# Altium schematic symbol library Connectors - Memory - Card Sockets.SchLib: 8 symbols
Pins are listed as number, name and electrical type; pins without a type are passive.

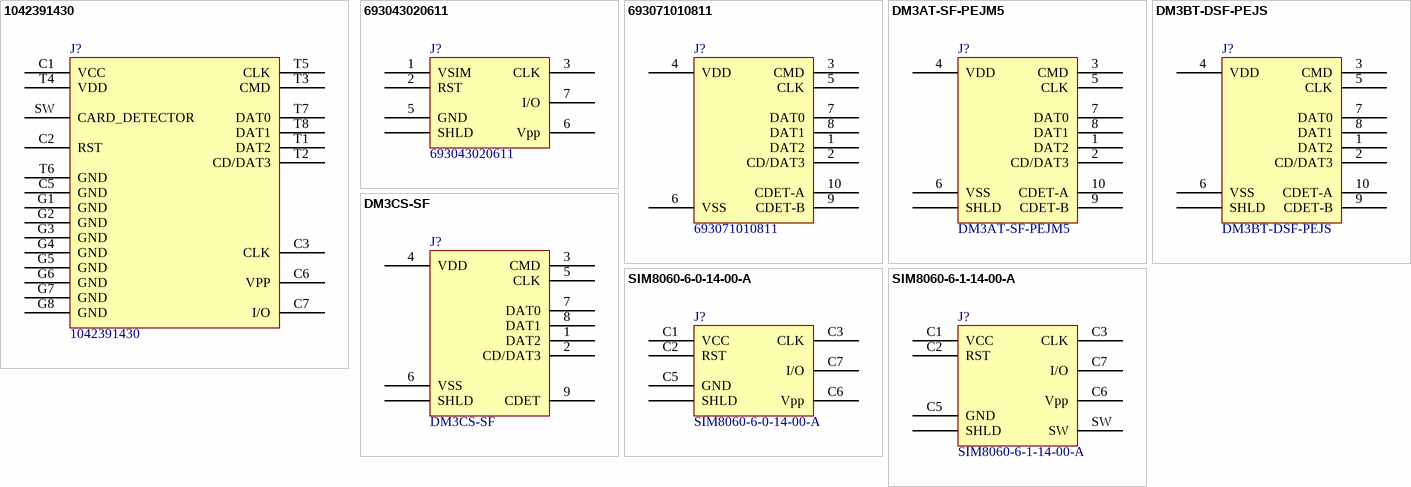
[diagram p0: symbols 1042391430 to SIM8060-6-1-14-00-A]

## 1042391430
designator J?
MSD/NSIM COMBO 2.05H PULLER TYPE; Manufacturer: Molex; Card Type: Combo - microSD™, NANO SIM; Connector Type: Connector and Ejector; Ejector Side: Left; Insertion, Removal Method: Push In, Push Out; Number of Positions: 15 (14 + 1); Part Number: 1042391430; ComponentLink1Description: Datasheet; ComponentLink1URL: http://www.literature.molex.com/SQLImages/kelmscott/Molex/PDF_Images/987651-1208.PDF; ComponentLink2Description: DigiKey Link; ComponentLink2URL: http://digikey.com/product-detail/en/molex/1042391430/WM12957CT-ND/5975370; Contact Finish: Gold or Gold-Palladium; Features: Switch; Height Above Board: 0.081" (2.05mm); LastUpdated: 3/30/2020 3:25:39 PM; Lifecycle Status: Active; Minimum Order: 1; Mounting Feature: Normal, Standard - Top; Mounting Type: Surface Mount, Right Angle; Packaging: TapeAndReel; Part Status: Active; Price: 1.65; Series: 104239; Supplier 1: DigiKey; Supplier Part Number 1: WM12957CT-ND
footprint MOLEX 1042391430
pins: C1 VCC, C2 RST, C3 CLK, C5 GND, C6 VPP, C7 I/O, G1 GND, G2 GND, G3 GND, G4 GND, G5 GND, G6 GND, G7 GND, G8 GND, SW CARD_DETECTOR, T1 DAT2, T2 CD/DAT3, T3 CMD, T4 VDD, T5 CLK, T6 GND, T7 DAT0, T8 DAT1

## 693043020611
designator J?
CONN SMART CARD PUSH-PULL; Manufacturer: Würth Elektronik; Card Type: NANO SIM; Connector Type: Connector; Insertion, Removal Method: Push In, Pull Out; Number of Positions: 6; Part Number: 693043020611; ComponentLink1Description: Datasheet; ComponentLink1URL: https://katalog.we-online.de/em/datasheet/693043020611.pdf; ComponentLink2Description: DigiKey Link; ComponentLink2URL: http://digikey.com/product-detail/en/w-rth-elektronik/693043020611/732-5954-1-ND/5047621; Contact Finish: Gold; Features: Shielded; Height Above Board: 0.047" (1.20mm); LastUpdated: 5/24/2020 9:28:20 PM; Lifecycle Status: Active; Minimum Order: 1; Mounting Feature: Normal, Standard - Top; Mounting Type: Surface Mount, Right Angle; Packaging: TapeAndReel; Part Status: Active; Price: 1.23; Series: WR-CRD; Supplier 1: DigiKey; Supplier Part Number 1: 732-5954-1-ND
footprint WURTH 693043020611
pins: 1 VSIM, 2 RST, 3 CLK, 5 GND, 6 Vpp, 7 I/O, S SHLD

## 693071010811
designator J?
CONN MICRO SD CARD PUSH-PUSH R/A; Manufacturer: Würth Elektronik; Card Type: Secure Digital - microSD™; Connector Type: Connector and Ejector; Insertion, Removal Method: Push In, Push Out; Number of Positions: 9 (8 + 1); Part Number: 693071010811; ComponentLink1Description: Datasheet; ComponentLink1URL: https://katalog.we-online.de/em/datasheet/693071010811.pdf; ComponentLink2Description: DigiKey Link; ComponentLink2URL: http://digikey.com/product-detail/en/w-rth-elektronik/693071010811/732-3819-1-ND/3124603; Contact Finish: Gold; Features: Switch; Height Above Board: 0.072" (1.83mm); LastUpdated: 5/24/2020 10:56:52 PM; Lifecycle Status: Active; Minimum Order: 1; Mounting Feature: Normal, Standard - Top; Mounting Type: Surface Mount, Right Angle; Packaging: TapeAndReel; Part Status: Active; Price: 1.89; Series: WR-CRD; Supplier 1: DigiKey; Supplier Part Number 1: 732-3819-1-ND
footprint WURTH 693071010811
pins: 1 DAT2, 2 CD/DAT3, 3 CMD, 4 VDD, 5 CLK, 6 VSS, 7 DAT0, 8 DAT1, 9 CDET-B, 10 CDET-A

## DM3AT-SF-PEJM5
designator J?
CONN MICRO SD CARD PUSH-PUSH R/A; Manufacturer: Hirose Electric Co Ltd; Card Type: Secure Digital - microSD™; Connector Type: Connector and Ejector; Insertion, Removal Method: Push In, Push Out; Number of Positions: 10 (8 + 2); Part Number: DM3AT-SF-PEJM5; ComponentLink1Description: Datasheet; ComponentLink1URL: https://www.hirose.com/product/document?clcode=CL0609-0033-6-00&productname=DM3AT-SF-PEJ2M5&series=DM3&documenttype=Catalog&lang=en&documentid=D49662_en; ComponentLink2Description: DigiKey Link; ComponentLink2URL: //digikey.com/product-detail/en/hirose-electric-co-ltd/DM3AT-SF-PEJM5/HR1964TR-ND/2533565; Contact Finish: Gold; Features: Switch; Height Above Board: 0.066" (1.68mm); LastUpdated: 12/16/2019 8:34:40 PM; Lifecycle Status: 0; Minimum Order: 1; Mounting Feature: Normal, Standard - Top; Mounting Type: Surface Mount, Right Angle; Packaging: TapeAndReel; Part Status: Active; Price: 1.41; Series: DM3; Supplier 1: DigiKey; Supplier Part Number 1: HR1964TR-ND
footprint HIROSE DM3AT-SF-PEJM5
pins: 1 DAT2, 2 CD/DAT3, 3 CMD, 4 VDD, 5 CLK, 6 VSS, 7 DAT0, 8 DAT1, 9 CDET-B, 10 CDET-A, S SHLD

## DM3BT-DSF-PEJS
designator J?
CONN MICRO SD CARD PUSH-PUSH R/A; Manufacturer: Hirose Electric Co Ltd; Card Type: Secure Digital - microSD™; Connector Type: Connector and Ejector; Insertion, Removal Method: Push In, Push Out; Number of Positions: 10 (8 + 2); Part Number: DM3BT-DSF-PEJS; ComponentLink1Description: Datasheet; ComponentLink1URL: https://www.hirose.com/product/download/?distributor=digikey&type=specSheet&lang=en&num=DM3BT-DSF-PEJS; ComponentLink2Description: DigiKey Link; ComponentLink2URL: //digikey.com/product-detail/en/hirose-electric-co-ltd/DM3BT-DSF-PEJS/HR1942TR-ND/1982749; Contact Finish: Gold; Features: Switch; Height Above Board: 0.072" (1.83mm); LastUpdated: 12/16/2019 8:35:34 PM; Lifecycle Status: 0; Minimum Order: 1; Mounting Feature: Reverse - Bottom; Mounting Type: Surface Mount, Right Angle; Packaging: TapeAndReel; Part Status: Active; Price: 1.25; Series: DM3; Supplier 1: DigiKey; Supplier Part Number 1: HR1942TR-ND
footprint HIROSE DM3BT-DSF-PEJS
pins: 1 DAT2, 2 CD/DAT3, 3 CMD, 4 VDD, 5 CLK, 6 VSS, 7 DAT0, 8 DAT1, 9 CDET-B, 10 CDET-A, S SHLD

## DM3CS-SF
designator J?
CONN MICRO SD CARD HINGED TYPE; Manufacturer: Hirose Electric Co Ltd; Card Type: Secure Digital - microSD™; Connector Type: Connector; Insertion, Removal Method: Hinged Lid; Number of Positions: 10 (8 + 2); Part Number: DM3CS-SF; ComponentLink1Description: Datasheet; ComponentLink1URL: https://www.hirose.com/product/document?clcode=CL0609-0033-6-00&productname=DM3AT-SF-PEJ2M5&series=DM3&documenttype=Catalog&lang=en&documentid=D49662_en; ComponentLink2Description: DigiKey Link; ComponentLink2URL: //digikey.com/product-detail/en/hirose-electric-co-ltd/DM3CS-SF/HR1972TR-ND/2602739; Contact Finish: Gold; Features: Switch; Height Above Board: 0.072" (1.83mm); LastUpdated: 12/16/2019 8:36:12 PM; Lifecycle Status: 0; Minimum Order: 1; Mounting Feature: Normal, Standard - Top; Mounting Type: Surface Mount, Right Angle; Packaging: TapeAndReel; Part Status: Active; Price: 0.77; Series: DM3; Supplier 1: DigiKey; Supplier Part Number 1: HR1972TR-ND
footprint HIROSE DM3CS
pins: 1 DAT2, 2 CD/DAT3, 3 CMD, 4 VDD, 5 CLK, 6 VSS, 7 DAT0, 8 DAT1, 9 CDET, S SHLD

## SIM8060-6-0-14-00-A
designator J?
SIM NANO HINGED, 6P, 1.40MM PROF; Manufacturer: GCT; Card Type: NANO SIM; Connector Type: Connector and Ejector; Insertion, Removal Method: Hinged Lid; Number of Positions: 6; Part Number: SIM8060-6-0-14-00-A; ComponentLink1Description: Datasheet; ComponentLink1URL: https://gct.co/files/drawings/sim8060.pdf; ComponentLink2Description: DigiKey Link; ComponentLink2URL: http://digikey.com/product-detail/en/gct/SIM8060-6-0-14-00-A/2073-SIM8060-6-0-14-00-ACT-ND/9859701; Contact Finish: Gold; Contact Finish Thickness: 1.00µin (0.025µm); Height Above Board: 0.056" (1.42mm); LastUpdated: 1/31/2020 1:25:05 AM; Lifecycle Status: Active; Minimum Order: 1; Mounting Feature: Normal, Standard - Top; Mounting Type: Surface Mount, Right Angle; Packaging: TapeAndReel; Part Status: Active; Price: 0.66; Series: SIM8060; Supplier 1: DigiKey; Supplier Part Number 1: 2073-SIM8060-6-0-14-00-ACT-ND
footprint GCT SIM8060-6-0-14-00-A
pins: C1 VCC, C2 RST, C3 CLK, C5 GND, C6 Vpp, C7 I/O, S SHLD

## SIM8060-6-1-14-00-A
designator J?
CONN SIM NANO HINGED 6P W/SWITCH; Manufacturer: GCT; Card Type: NANO SIM; Connector Type: Connector and Ejector; Insertion, Removal Method: Hinged Lid; Number of Positions: 6; Part Number: SIM8060-6-1-14-00-A; ComponentLink1Description: Datasheet; ComponentLink1URL: https://gct.co/files/drawings/sim8060.pdf; ComponentLink2Description: DigiKey Link; ComponentLink2URL: http://digikey.com/product-detail/en/gct/SIM8060-6-1-14-00-A/2073-SIM8060-6-1-14-00-ACT-ND/10127236; Contact Finish: Gold; Contact Finish Thickness: 1.00µin (0.025µm); Height Above Board: 0.056" (1.42mm); LastUpdated: 3/30/2020 3:26:01 PM; Lifecycle Status: Active; Minimum Order: 1; Mounting Feature: Normal, Standard - Top; Mounting Type: Surface Mount, Right Angle; Packaging: TapeAndReel; Part Status: Active; Price: 0.70; Series: SIM8060; Supplier 1: DigiKey; Supplier Part Number 1: 2073-SIM8060-6-1-14-00-ACT-ND
footprint GCT SIM8060-6-1-14-00-A
pins: C1 VCC, C2 RST, C3 CLK, C5 GND, C6 Vpp, C7 I/O, S SHLD, SW